# Altium schematic symbol library C14MC12B.SchLib: 1 symbol
Pins are listed as number, name and electrical type; pins without a type are passive.

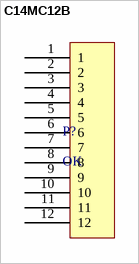
[diagram p0: symbol C14MC12B]

## C14MC12B
designator P?, comment OK
12 Pin Battery male connector
pins: 1, 2, 3, 4, 5, 6, 7, 8, 9, 10, 11, 12